# Altium footprint library FCI_61082_041402LF.PcbLib: 1 footprints
Each footprint in its own frame and in the unit in brackets; x right, y up, seen from the top. Pads: shape width x height; smd on the part's side, far side on the other; paste and mask are expansions set on the pad; w line width, h text height; cw(c..) or ccw(c..) is an arc to the next point about the centre after c.
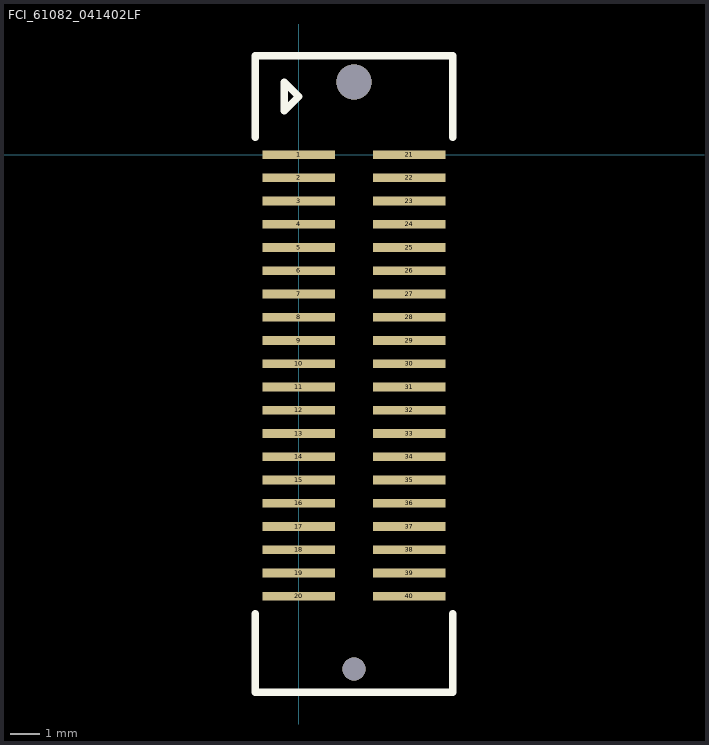
[diagram p0: the footprint, top view; thin cyan lines are the x and y axes]

## FCI_61082_041402LF [mm]
pads (40):
  rect 2.5x0.3 smd: 1(0,0) 2(0,-0.8) 3(0,-1.6) 4(0,-2.4) 5(0,-3.2) 6(0,-4) 7(0,-4.8) 8(0,-5.6) 9(0,-6.4) 10(0,-7.2) 11(0,-8) 12(0,-8.8) 13(0,-9.6) 14(0,-10.4) 15(0,-11.2) 16(0,-12) 17(0,-12.8) 18(0,-13.6) 19(0,-14.4) 20(0,-15.2) 21(3.8,0) 22(3.8,-0.8) 23(3.8,-1.6) 24(3.8,-2.4) 25(3.8,-3.2) 26(3.8,-4) 27(3.8,-4.8) 28(3.8,-5.6) 29(3.8,-6.4) 30(3.8,-7.2) 31(3.8,-8) 32(3.8,-8.8) 33(3.8,-9.6) 34(3.8,-10.4) 35(3.8,-11.2) 36(3.8,-12) 37(3.8,-12.8) 38(3.8,-13.6) 39(3.8,-14.4) 40(3.8,-15.2)
via 1.9,2.5 diameter 1.2 hole 1.2
via 1.9,-17.7 diameter 0.8 hole 0.8
Top Overlay:
  lines w0.254: -1.5,-15.8 -1.5,-18.5 5.3,-18.5 5.3,-15.8 ; -1.5,0.6 -1.5,3.4 5.3,3.4 5.3,0.6 ; 0,2 -0.5,1.5 -0.5,2.5 0,2 ; 0,2 0,2
3D body: height 3.65, standoff -0.7, extent -1.5,-18.5 5.3,3.3